# Altium footprint library CONN3x6_CINCH.PcbLib: 1 footprints
Each footprint in its own frame and in the unit in brackets; x right, y up, seen from the top. Pads: shape width x height; smd on the part's side, far side on the other; paste and mask are expansions set on the pad; w line width, h text height; cw(c..) or ccw(c..) is an arc to the next point about the centre after c.
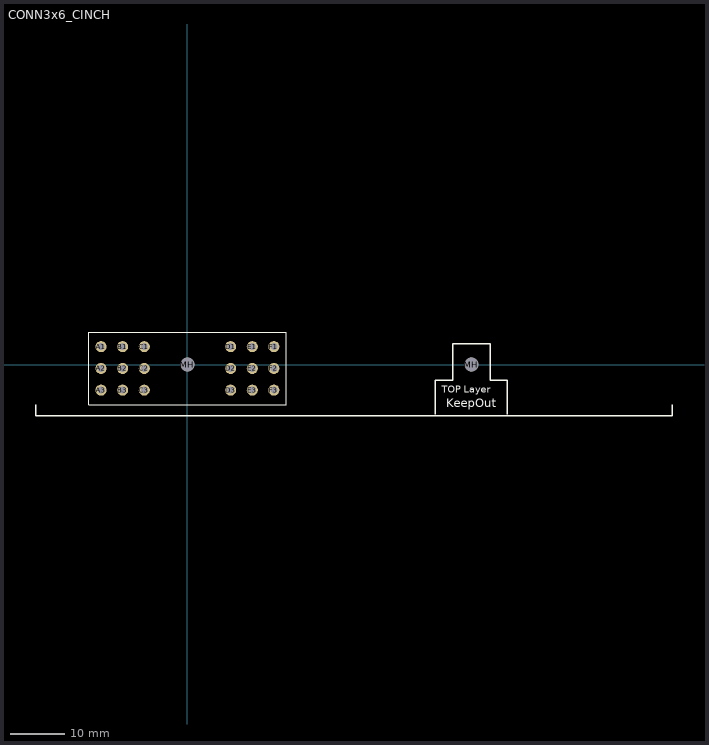
[diagram p0: the footprint, top view; thin cyan lines are the x and y axes]

## CONN3x6_CINCH [mil] "Cinch 60 Pin Connector 581-01-60-001"
pads (20):
  round 80 hole 50: A1(-623.99,129) A2(-623.99,-28.01) A3(-623.99,-185.01) B1(-468.01,129) B2(-468.01,-28.01) B3(-468.01,-185.01) C1(-311.98,129) C2(-311.98,-28.01) C3(-311.98,-185.01) D1(311.99,129) D2(311.99,-28.01) D3(311.99,-185.01) E1(468.02,129) E3(468.02,-185.01) F1(624,129) F2(624,-28.01) F3(624,-185.01)
  round 80 hole 50 mask+4.02: E2(468.02,-28.01)
  round 100 hole 100 unplated: MH(0,0) MH(2050,0)
TopOverlay:
  lines w7.99: -713.99,-288.99 -713.99,233.02
  lines w8: -713.99,-289 714,-289 714,233 -713.99,233
  lines w10: -1095,-290 -1095,-370 3500,-370 3500,-290 ; 1790,-360 1790,-115 1915,-115 1915,150 2050,150 2185,150 2185,-115 2310,-115 2310,-360
  text "KeepOut" at 1870,-310 h60
  text "TOP Layer" at 1835,-205 h50